# EAGLE library part MAX7315 (library Micromouse 2020)
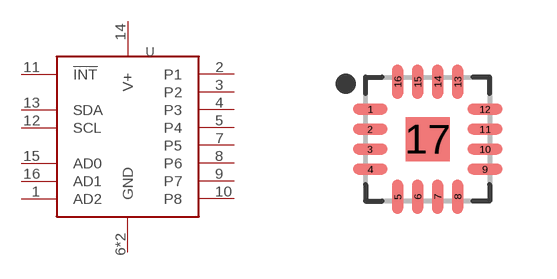
[diagram p10: symbol with the pads of MAX7315; footprint MAX7315]

Designator prefix U

## MAX7315  [MAX7315]
1  AD2  in
2  P1
3  P2
4  P3
5  P4
6  GND  pas
7  P5
8  P6
9  P7
10  P8
11  !INT  out
12  SCL  in
13  SDA
14  V+  pwr
15  AD0  in
16  AD1  in
17  GND  pas

## Footprint MAX7315 (pad centres in mm)
16-QFN, 0.50 mm pitch, 3.00 X 3.00 X 0.80 mm body, 1.10 X 1.10 mm thermal pad 16-pin QFN package with 0.50 mm pitch with body size 3.00 X 3.00 X 0.80 mm and thermal pad size 1.10 X 1.10 mm
smd 0.86 x 0.27: 1 -1.435,0.75; 2 -1.435,0.25; 3 -1.435,-0.25; 4 -1.435,-0.75; 9 1.435,-0.75; 10 1.435,-0.25; 11 1.435,0.25; 12 1.435,0.75
smd 0.27 x 0.86: 5 -0.75,-1.435; 6 -0.25,-1.435; 7 0.25,-1.435; 8 0.75,-1.435; 13 0.75,1.435; 14 0.25,1.435; 15 -0.25,1.435; 16 -0.75,1.435
smd 1.1 x 1.1: 17 0,0